# Altium footprint library SBH11-PBPC-D07-ST-BK.PcbLib: 1 footprints
Each footprint in its own frame and in the unit in brackets; x right, y up, seen from the top. Pads: shape width x height; smd on the part's side, far side on the other; paste and mask are expansions set on the pad; w line width, h text height; cw(c..) or ccw(c..) is an arc to the next point about the centre after c.
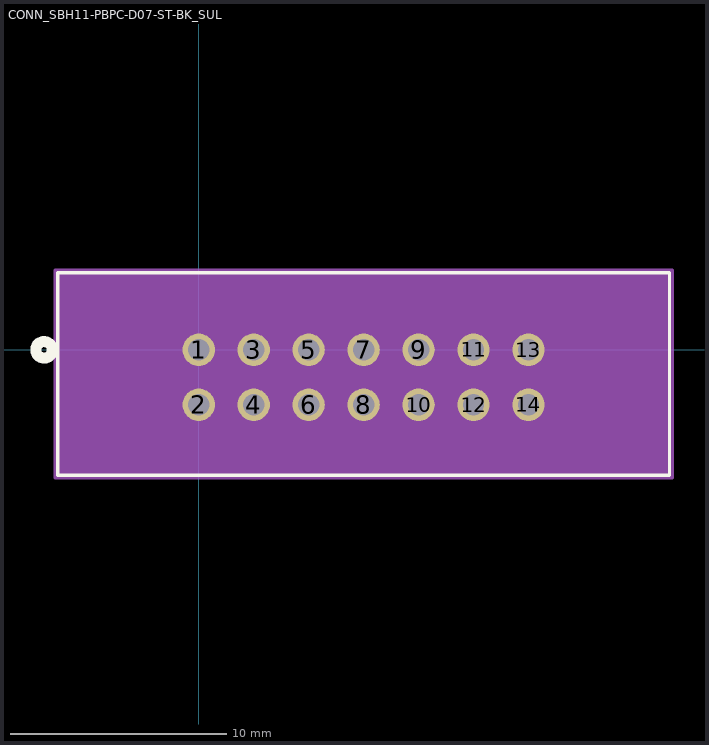
[diagram p0: the footprint, top view; thin cyan lines are the x and y axes]

## CONN_SBH11-PBPC-D07-ST-BK_SUL [mil]
pads (14):
  round 59 / inner round 60 / far side round 59 hole 39 paste-29.5 mask+0: 1(0,0) 2(0,-100) 3(100,0) 4(100,-100) 5(200,0) 6(200,-100) 7(300,0) 8(300,-100) 9(400,0) 10(400,-100) 11(500,0) 12(500,-100) 13(600,0) 14(600,-100)
Top Overlay:
  circle w20: c-281.5,0 r15
  lines w6: -256.5,-228 856.5,-228 856.5,140 -256.5,140 -256.5,-228
Bottom Overlay:
  circle w20: c-281.5,0 r15
Mechanical 13:
  circle w20: c0,75 r15
  lines w1: -251.5,-223 851.5,-223 851.5,135 -251.5,135 -251.5,-223
Mechanical 15:
  region: 861.5,145 -261.5,145 -261.5,-233 861.5,-233
  lines w6: -261.5,-233 -261.5,145 861.5,145 861.5,-233 -261.5,-233